# EAGLE library part 54HC299 (library CD54HC299)
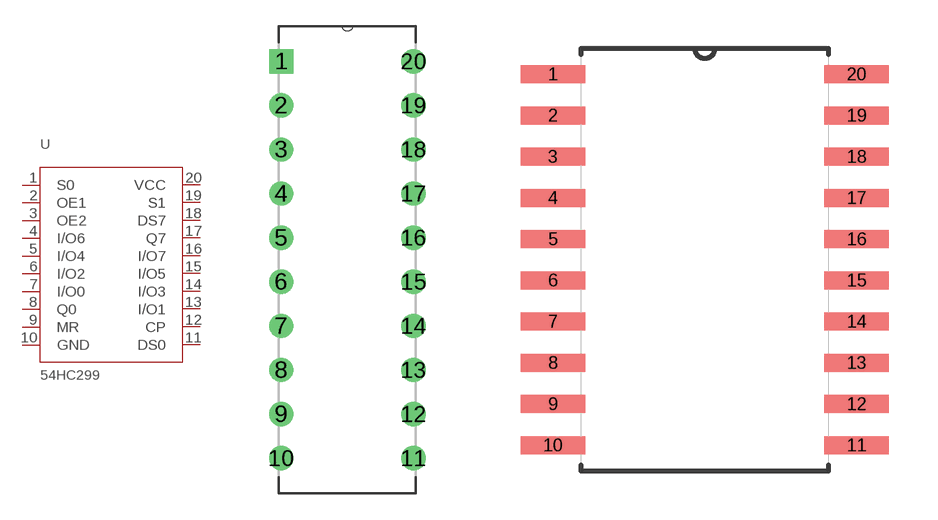
[diagram p0: symbol with the pads of DIP254P762X508-20P; footprints DIP254P762X508-20P, SOIC127P1032X265-20N]

Designator prefix -

## 54HC299  [DIP254P762X508-20P]
1  S0
2  OE1
3  OE2
4  I/O6
5  I/O4
6  I/O2
7  I/O0
8  Q0
9  MR
10  GND
11  DS0
12  CP
13  I/O1
14  I/O3
15  I/O5
16  I/O7
17  Q7
18  DS7
19  S1
20  VCC

## 54HC299SO20  [SOIC127P1032X265-20N]
Pads as for DIP254P762X508-20P

## 54HC299SSOP20  [SOP65P777X199-20N]
Pads as for DIP254P762X508-20P

## Footprint DIP254P762X508-20P (pad centres in mm)
drill 0.889 square: 1 -3.81,13.97
drill 0.889: 2 -3.81,11.43; 3 -3.81,8.89; 4 -3.81,6.35; 5 -3.81,3.81; 6 -3.81,1.27; 7 -3.81,-1.27; 8 -3.81,-3.81; 9 -3.81,-6.35; 10 -3.81,-8.89; 11 3.81,-8.89; 12 3.81,-6.35; 13 3.81,-3.81; 14 3.81,-1.27; 15 3.81,1.27; 16 3.81,3.81; 17 3.81,6.35; 18 3.81,8.89; 19 3.81,11.43; 20 3.81,13.97

## Footprint SOIC127P1032X265-20N (pad centres in mm)
smd 1.981 x 0.559: 1 -4.674,5.715; 2 -4.674,4.445; 3 -4.674,3.175; 4 -4.674,1.905; 5 -4.674,0.635; 6 -4.674,-0.635; 7 -4.674,-1.905; 8 -4.674,-3.175; 9 -4.674,-4.445; 10 -4.674,-5.715; 11 4.674,-5.715; 12 4.674,-4.445; 13 4.674,-3.175; 14 4.674,-1.905; 15 4.674,-0.635; 16 4.674,0.635; 17 4.674,1.905; 18 4.674,3.175; 19 4.674,4.445; 20 4.674,5.715

## Footprint SOP65P777X199-20N (pad centres in mm)
smd 1.7 x 0.48: 1 -3.46,2.925; 2 -3.46,2.275; 3 -3.46,1.625; 4 -3.46,0.975; 5 -3.46,0.325; 6 -3.46,-0.325; 7 -3.46,-0.975; 8 -3.46,-1.625; 9 -3.46,-2.275; 10 -3.46,-2.925; 11 3.46,-2.925; 12 3.46,-2.275; 13 3.46,-1.625; 14 3.46,-0.975; 15 3.46,-0.325; 16 3.46,0.325; 17 3.46,0.975; 18 3.46,1.625; 19 3.46,2.275; 20 3.46,2.925